# Altium footprint library NX3L1T3157GM,115.PcbLib: 3 footprints
Each footprint in its own frame and in the unit in brackets; x right, y up, seen from the top. Pads: shape width x height; smd on the part's side, far side on the other; paste and mask are expansions set on the pad; w line width, h text height; cw(c..) or ccw(c..) is an arc to the next point about the centre after c.
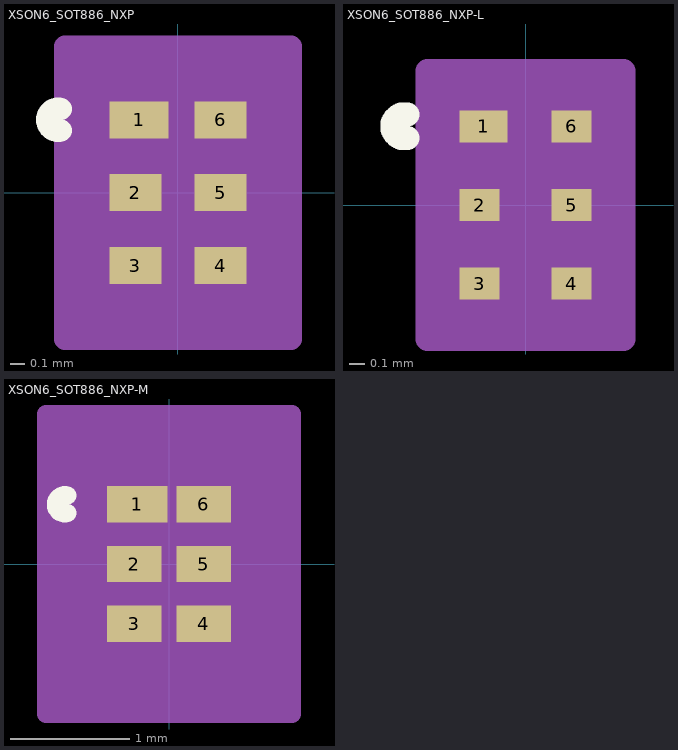
[diagram p0: the footprints below, top view; thin cyan lines are the x and y axes]

## XSON6_SOT886_NXP [mil]
pads (6):
  rect 16x10 smd paste+0 mask+0: 1(-10.5,19.68)
  rect 14x10 smd paste+0 mask+0: 2(-11.5,0) 3(-11.5,-19.68) 4(11.5,-19.68) 5(11.5,0) 6(11.5,19.68)
Top Overlay:
  lines w6: -31.6,16.78 cw(c-32.34,19.68) -31.6,22.59
Mechanical 13:
  circle w6: c-4.5,19.68 r0
  lines w0: -12,29.5 ccw(c0,29.5) 12,29.5
  lines w1: -20.5,-29.5 20.5,-29.5 20.5,29.5 -20.5,29.5 -20.5,-29.5
Mechanical 15:
  region: -30.5,-34.69 -30.5,34.69 -30.5,39.5 30.5,39.5 30.5,34.69 30.5,-34.69 30.5,-39.5 -30.5,-39.5
  lines w6: -30.5,-34.69 -30.5,34.69 ; -30.5,-34.69 -30.5,-34.69 ; -30.5,-34.69 -30.5,-39.5 30.5,-39.5 30.5,-34.69 ; -30.5,34.69 -30.5,34.69 ; -30.5,34.69 -30.5,39.5 30.5,39.5 30.5,34.69 ; 30.5,-34.69 30.5,34.69 ; 30.5,-34.69 30.5,-34.69 ; 30.5,34.69 30.5,34.69
3D body "XSON6_SOT886_NXP.step": height 20.12, standoff 0, extent -20.51,-29.49 20.51,29.49

## XSON6_SOT886_NXP-L [mil]
pads (6):
  rect 12x8 smd paste+0 mask+0: 1(-10.5,19.68)
  rect 10x8 smd paste+0 mask+0: 2(-11.5,0) 3(-11.5,-19.68) 4(11.5,-19.68) 5(11.5,0) 6(11.5,19.68)
Top Overlay:
  lines w6: -29.6,16.78 cw(c-30.34,19.68) -29.6,22.59
Mechanical 13:
  circle w6: c-6.5,19.68 r3
  lines w0: -12,29.5 ccw(c0,29.5) 12,29.5
  lines w1: -20.5,-29.5 20.5,-29.5 20.5,29.5 -20.5,29.5 -20.5,-29.5
Mechanical 15:
  region: -24.5,-27.68 -24.5,27.68 -24.5,33.5 24.5,33.5 24.5,27.68 24.5,-27.68 24.5,-33.5 -24.5,-33.5
  lines w6: -24.5,-27.68 -24.5,27.68 ; -24.5,-27.68 -24.5,-27.68 ; -24.5,-27.68 -24.5,-33.5 24.5,-33.5 24.5,-27.68 ; -24.5,27.68 -24.5,27.68 ; -24.5,27.68 -24.5,33.5 24.5,33.5 24.5,27.68 ; 24.5,-27.68 24.5,27.68 ; 24.5,-27.68 24.5,-27.68 ; 24.5,27.68 24.5,27.68
3D body "XSON6_SOT886_NXP.step": height 20.12, standoff 0, extent -20.51,-29.49 20.51,29.49

## XSON6_SOT886_NXP-M [mil]
pads (6):
  rect 20x12 smd paste+0 mask+0: 1(-10.5,19.68)
  rect 18x12 smd paste+0 mask+0: 2(-11.5,0) 3(-11.5,-19.68) 4(11.5,-19.68) 5(11.5,0) 6(11.5,19.68)
Top Overlay:
  lines w6: -33.6,16.78 cw(c-34.34,19.68) -33.6,22.59
Mechanical 13:
  circle w6: c-2.5,19.68 r3
  lines w0: -12,29.5 ccw(c0,29.5) 12,29.5
  lines w1: -20.5,-29.5 20.5,-29.5 20.5,29.5 -20.5,29.5 -20.5,-29.5
Mechanical 15:
  region: -40.5,-45.69 -40.5,45.69 -40.5,49.5 40.5,49.5 40.5,45.69 40.5,-45.69 40.5,-49.5 -40.5,-49.5
  lines w6: -40.5,-45.69 -40.5,45.69 ; -40.5,-45.69 -40.5,-45.69 ; -40.5,-45.69 -40.5,-49.5 40.5,-49.5 40.5,-45.69 ; -40.5,45.69 -40.5,45.69 ; -40.5,45.69 -40.5,49.5 40.5,49.5 40.5,45.69 ; 40.5,-45.69 40.5,45.69 ; 40.5,-45.69 40.5,-45.69 ; 40.5,45.69 40.5,45.69
3D body "XSON6_SOT886_NXP.step": height 20.12, standoff 0, extent -20.51,-29.49 20.51,29.49